# Altium integrated library Analog Devices Data Converters Digital-to-Analog Converters.IntLib: 2231 symbols (part 135 of 181)
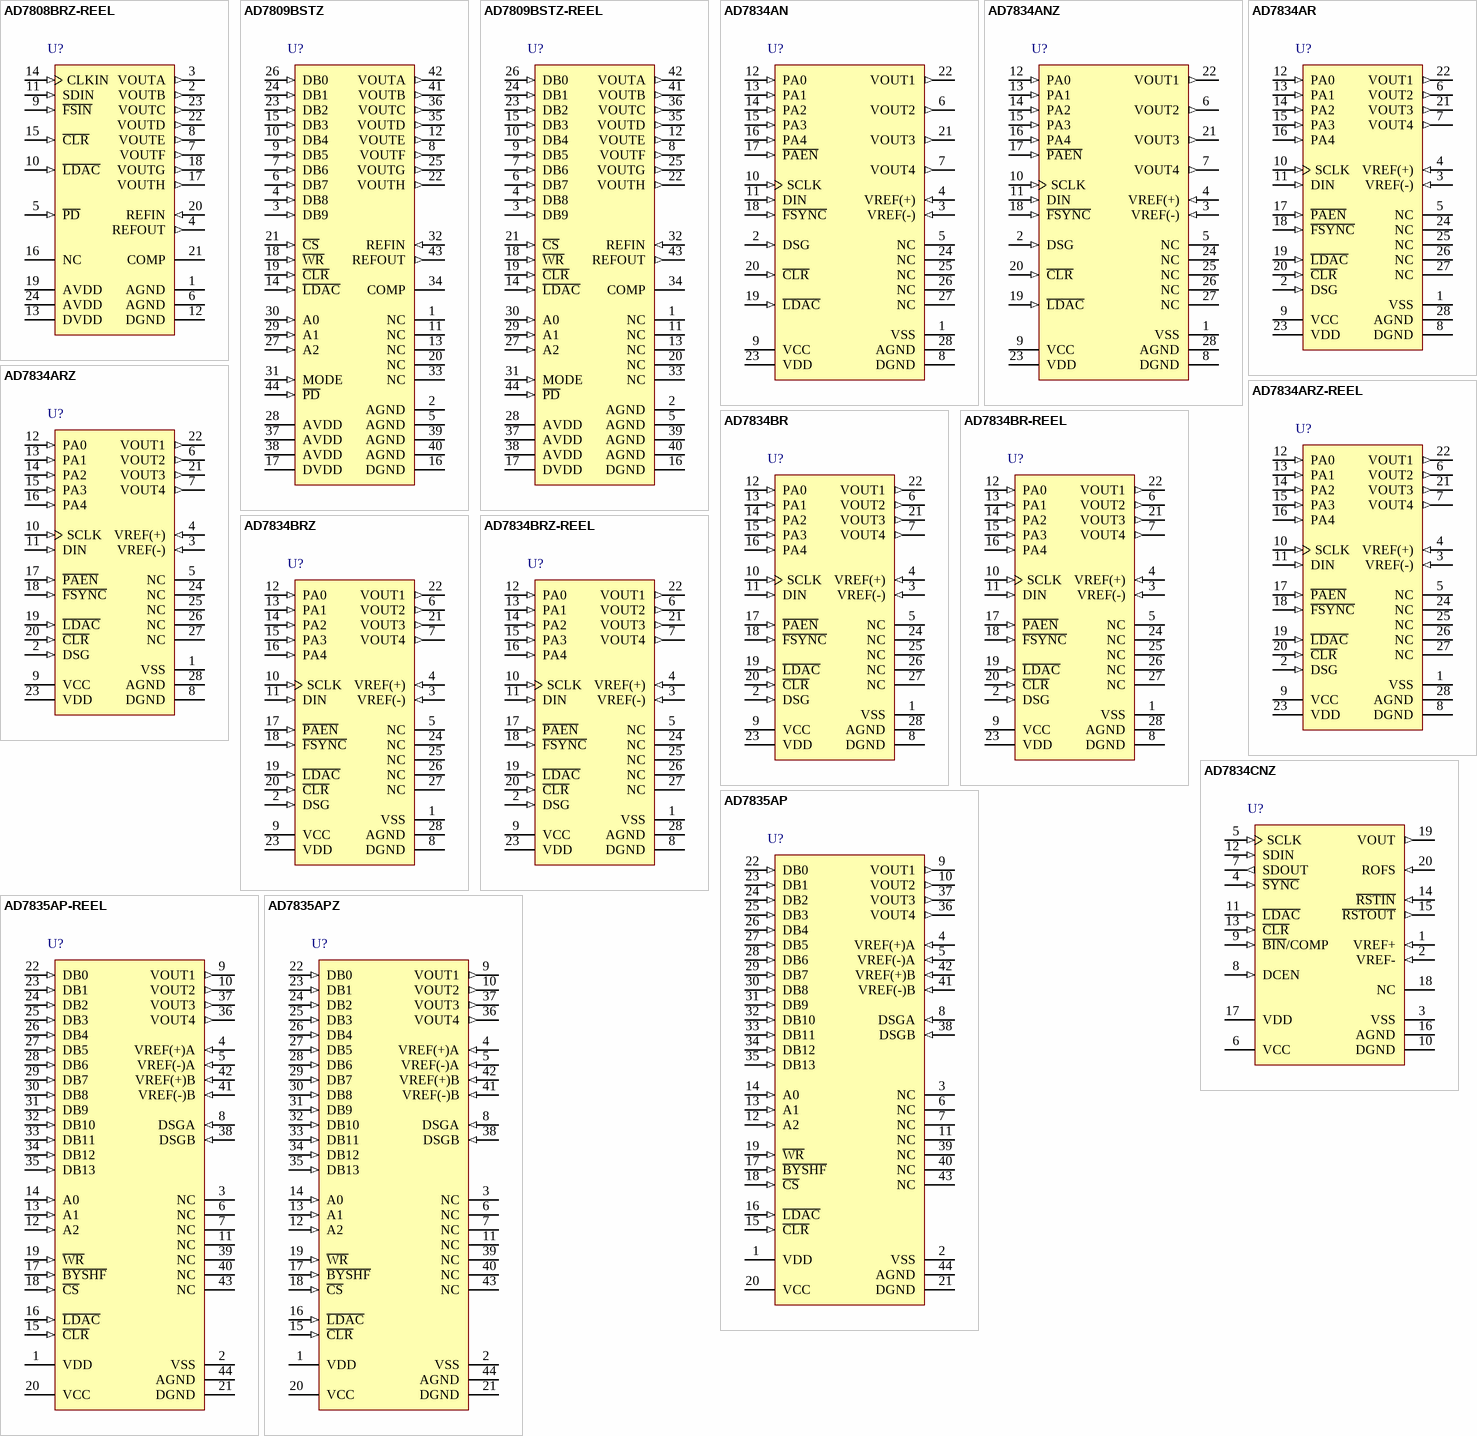
[diagram p248: symbols AD7808BRZ-REEL to AD7835APZ]

## AD7809BSTZ-REEL
designator U?
Octal 10-Bit Digital-to-Analog Converter, 3.3 to 5 V, 0 to +70 degC, SU-44, Pb-Free, Reel; Generic Part Number: AD7809; Manufacturer: Analog Devices; PartNumber: AD7809BSTZ-REEL; # DAC Outputs: 8; Max V+: 5.5V; Op Pwr Diss: 99mW; Resolution (Bits): 10; Settling Time: 1.5µs; Single Supply: Yes; DatasheetVersion: Rev.A; PackageVersion: 2003; PackageReference: SU-44; PackageDescription: 44-Lead Thin Plastic Quad Flat Package [TQFP]; Supplier 1: Digi-Key; Supplier Part Number 1: AD7809BSTZ-REEL-ND; Supplier 2: Mouser; Supplier Part Number 2: 584-AD7809BSTZ-R; Packing: Reel; RoHS: Y; Mounting Technology: Surface Mount; Code_JEDEC: MS-026-ACB; ComponentLink1Description: Manufacturer URL; ComponentLink1URL: http://www.analog.com/en/index.html; ComponentLink2Description: Datasheet; ComponentLink2URL: http://www.analog.com/static/imported-files/data_sheets/AD7804_7805_7808_7809.pdf; ComponentLink3Description: Package Specification; ComponentLink3URL: http://www.analog.com/static/imported-files/packages/433604008844224432481202SU_44.pdf; ComponentLink4Description: Product URL; ComponentLink4URL: http://www.analog.com/en/digital-to-analog-converters/da-converters/ad7809/products/product.html
footprint SU-44_N (Thin QFP, 44-Leads, Body 10x10mm, Pitch 0.8mm, IPC Medium Density)
footprint SU-44_L (Thin QFP, 44-Leads, Body 10x10mm, Pitch 0.8mm, IPC High Density)
footprint SU-44_M (Thin QFP, 44-Leads, Body 10x10mm, Pitch 0.8mm, IPC Low Density)
pins: 1 NC "No Connect. These pins should be left open circuit.", 2 AGND (power) "Ground reference point for analog circuitry.", 3 DB9 (in) "Data Input. DB9 to DB2 are the 8 MSBs of the data word.", 4 DB8 (in) "Data Input. DB9 to DB2 are the 8 MSBs of the data word.", 5 AGND (power) "Ground reference point for analog circuitry.", 6 DB7 (in) "Data Input. DB9 to DB2 are the 8 MSBs of the data word.", 7 DB6 (in) "Data Input. DB9 to DB2 are the 8 MSBs of the data word.", 8 VOUTF (out) "Analog output voltages from the DACs.", 9 DB5 (in) "Data Input. DB9 to DB2 are the 8 MSBs of the data word.", 10 DB4 (in) "Data Input. DB9 to DB2 are the 8 MSBs of the data word.", 11 NC "No Connect. These pins should be left open circuit.", 12 VOUTE (out) "Analog output voltages from the DACs.", 13 NC "No Connect. These pins should be left open circuit.", 14 ~{LDAC} (in) "L\D\A\C\ Input. When this digital input is taken low, all DAC registers are simultaneously updated with the contents of the DAC data registers. If L\D\A\C\ is permanently tied low, or is low during the rising edge of W\R\ (See Datasheet)", 15 DB3 (in) "Data Input. DB9 to DB2 are the 8 MSBs of the data word.", 16 DGND (power) "Ground reference point for digital circuitry.", 17 DVDD (power) "Digital Power Supply.", 18 ~{WR} (in) "Write Input W\R\ is an active low logic input which is used in conjunction with C\S\ and the address pins to write data to the relevant registers.", 19 ~{CLR} (in) "Asynchronous C\L\R\ Input. When this input is taken low, all Main DAC outputs are cleared either to VBIAS or to VBIAS/16 volts. All Sub DACs are also cleared and thus the transfer function of the MAIN DAC will remain (See Datasheet)", 20 NC "No Connect. These pins should be left open circuit.", 21 ~{CS} (in) "Chip Select. Active low logic input.", 22 VOUTH (out) "Analog output voltages from the DACs.", 23 DB2 (in) "Data Input. DB9 to DB2 are the 8 MSBs of the data word.", 24 DB1 (in) "DB1 and DB0 function as the 2 LSBs of the 10-bit word in 10-bit parallel mode but have other functions when BYTE loading structure is used.", 25 VOUTG (out) "Analog output voltages from the DACs.", 26 DB0 (in) "DB1 and DB0 function as the 2 LSBs of the 10-bit word in 10-bit parallel mode but have other functions when BYTE loading structure is used.", 27 A2 (in) "DAC Address Inputs. These digital inputs are used in conjunction with C\S\ and W\R\ to determine which DAC channel control register or DAC data register is loaded from the input register. These address bits are don't cares when writing to the system cont", 28 AVDD (power) "Analog Power Supply.", 29 A1 (in) "DAC Address Inputs. These digital inputs are used in conjunction with C\S\ and W\R\ to determine which DAC channel control register or DAC data register is loaded from the input register. These address bits are don’t cares when writing to the system cont", 30 A0 (in) "DAC Address Inputs. These digital inputs are used in conjunction with C\S\ and W\R\ to determine which DAC channel control register or DAC data register is loaded from the input register. These address bits are don’t cares when writing to the system cont", 31 MODE (in) "Logic Input. Logic high enables writing to the DAC data registers, a logic low enables writing to the control registers.", 32 REFIN (in) "This is an external reference input for the DAC. When this reference is selected for the DAC in the control register, the analog output from the selected DAC swings around this point.", 33 NC "No Connect. These pins should be left open circuit.", 34 COMP "Compensation Pin. This pin provides an output from the internal VDD/2 divider and is provided for ac bypass purposes only. This pin should be decoupled with 1 nF capacitors to both AVDD and AGND. This pin can be overdriven (See Datasheet)", 35 VOUTD (out) "Analog output voltages from the DACs.", 36 VOUTC (out) "Analog output voltages from the DACs.", 37 AVDD (power) "Analog Power Supply.", 38 AVDD (power) "Analog Power Supply.", 39 AGND (power) "Ground reference point for analog circuitry.", 40 AGND (power) "Ground reference point for analog circuitry.", 41 VOUTB (out) "Analog output voltages from the DACs.", 42 VOUTA (out) "Analog output voltages from the DACs.", 43 REFOUT (out) "Reference Output. This is a bandgap reference and is typically 1.23 V.", 44 ~{PD} (in) "Active low input used to put the part into low power mode reducing current consumption to 1 uA."

## AD7834AN
designator U?
Quad 14-Bit LC2MOS Digital-to-Analog Converter, -40 to +85 degC, N-28-2, Tube; Generic Part Number: AD7834; Manufacturer: Analog Devices; PartNumber: AD7834AN; # DAC Outputs: 4; Max V+: 15.75V; Op Pwr Diss: 465mW; Resolution (Bits): 14; Settling Time: 10µs; Single Supply: No; DatasheetVersion: Rev.D; PackageVersion: 071006-A; PackageReference: N-28-2; PackageDescription: 28-Lead Plastic Dual In-Line Package [PDIP]; Supplier 1: Digi-Key; Supplier Part Number 1: AD7834AN-ND; Supplier 2: Mouser; Supplier Part Number 2: 584-AD7834AN; Packing: Tube; RoHS: N; Mounting Technology: Through Hole; Code_JEDEC: MS-011; ComponentLink1Description: Manufacturer URL; ComponentLink1URL: http://www.analog.com/en/index.html; ComponentLink2Description: Datasheet; ComponentLink2URL: http://www.analog.com/static/imported-files/data_sheets/AD7834_7835.pdf; ComponentLink3Description: Package Specification; ComponentLink3URL: http://www.analog.com/static/imported-files/packages/50849324123784N_28_2.pdf; ComponentLink4Description: Product URL; ComponentLink4URL: http://www.analog.com/en/digital-to-analog-converters/da-converters/ad7834/products/product.html
footprint N-28-2 (DIP, 28-Leads, Row Spacing 15.55mm, Pitch 2.54mm, Body 37.4x13.5mm)
pins: 1 VSS (power) "Negative Analog Power Supply: -15 V +/- 5% or -12 V +/- 5%.", 2 DSG (in) "Device Sense Ground Input. Used in conjunction with the C\L\R\ input for power-on protection of  the DACs. When C\L\R\ is low, the DAC outputs are forced to the potential on the DSG pin.", 3 VREF(-) (in) "Negative Reference Input. The negative reference voltage is referred to AGND.", 4 VREF(+) (in) "Positive Reference Input. The positive reference voltage is referred to AGND.", 5 NC "No Connect.", 6 VOUT2 (out) "DAC Output.", 7 VOUT4 (out) "DAC Output.", 8 DGND (power) "Digital Ground.", 9 VCC (power) "Logic Power Supply: 5 V +/- 5%.", 10 SCLK (in) "Clock Input. Used for writing data to the device; data is clocked into the input register on the falling edge of SCLK.", 11 DIN (in) "Serial Data Input.", 12 PA0 (in) "Package Address Input. These inputs are hardwired high (VCC) or low (DGND) to assign dedicated package addresses in a multipackage environment.", 13 PA1 (in) "Package Address Input. These inputs are hardwired high (VCC) or low (DGND) to assign dedicated package addresses in a multipackage environment.", 14 PA2 (in) "Package Address Input. These inputs are hardwired high (VCC) or low (DGND) to assign dedicated package addresses in a multipackage environment.", 15 PA3 (in) "Package Address Input. These inputs are hardwired high (VCC) or low (DGND) to assign dedicated package addresses in a multipackage environment.", 16 PA4 (in) "Package Address Input. These inputs are hardwired high (VCC) or low (DGND) to assign dedicated package addresses in a multipackage environment.", 17 ~{PAEN} (in) "Package Address Enable Input. When low, this input allows normal operation of the device. When high, the device ignores the package address, but not the channel address, in the serial data stream and loads the serial data (See Datasheet)", 18 ~{FSYNC} (in) "Frame Sync Input. Active low logic input used, in conjunction with DIN and SCLK, to write data to the device with serial data expected after the falling edge of this signal. The contents of the 24-bit serial-to-parallel (See Datasheet)", 19 ~{LDAC} (in) "Load DAC Input (Level Sensitive). This input signal, in conjunction with the F\S\Y\N\C\ input signal, determines how the analog outputs are updated. If L\D\A\C\ is maintained high while new data is being loaded into the (See Datasheet)", 20 ~{CLR} (in) "Asynchronous Clear Input (Level Sensitive, Active Low). When this input is brought low, all analog outputs are switched to the externally set potential on the DSG pin. When C\L\R\ is brought high, the signal outputs remain (See Datasheet)", 21 VOUT3 (out) "DAC Output.", 22 VOUT1 (out) "DAC Output.", 23 VDD (power) "Positive Analog Power Supply: 15 V +/-5% or 12 V +/- 5%.", 24 NC "No Connect.", 25 NC "No Connect.", 26 NC "No Connect.", 27 NC "No Connect.", 28 AGND (power) "Analog Ground."

## AD7834ANZ
designator U?
Quad 14-Bit LC2MOS Digital-to-Analog Converter, -40 to +85 degC, N-28-2, Pb-Free, Tube; Generic Part Number: AD7834; Manufacturer: Analog Devices; PartNumber: AD7834ANZ; # DAC Outputs: 4; Max V+: 15.75V; Op Pwr Diss: 465mW; Resolution (Bits): 14; Settling Time: 10µs; Single Supply: No; DatasheetVersion: Rev.D; PackageVersion: 071006-A; PackageReference: N-28-2; PackageDescription: 28-Lead Plastic Dual In-Line Package [PDIP]; Supplier 1: Digi-Key; Supplier Part Number 1: AD7834ANZ-ND; Supplier 2: Newark; Supplier Part Number 2: 59K5615; Supplier 3: Mouser; Supplier Part Number 3: 584-AD7834ANZ; Packing: Tube; RoHS: Y; Mounting Technology: Through Hole; Code_JEDEC: MS-011; ComponentLink1Description: Manufacturer URL; ComponentLink1URL: http://www.analog.com/en/index.html; ComponentLink2Description: Datasheet; ComponentLink2URL: http://www.analog.com/static/imported-files/data_sheets/AD7834_7835.pdf; ComponentLink3Description: Package Specification; ComponentLink3URL: http://www.analog.com/static/imported-files/packages/50849324123784N_28_2.pdf; ComponentLink4Description: Product URL; ComponentLink4URL: http://www.analog.com/en/digital-to-analog-converters/da-converters/ad7834/products/product.html
footprint N-28-2 (DIP, 28-Leads, Row Spacing 15.55mm, Pitch 2.54mm, Body 37.4x13.5mm)
pins: 1 VSS (power) "Negative Analog Power Supply: -15 V +/- 5% or -12 V +/- 5%.", 2 DSG (in) "Device Sense Ground Input. Used in conjunction with the C\L\R\ input for power-on protection of  the DACs. When C\L\R\ is low, the DAC outputs are forced to the potential on the DSG pin.", 3 VREF(-) (in) "Negative Reference Input. The negative reference voltage is referred to AGND.", 4 VREF(+) (in) "Positive Reference Input. The positive reference voltage is referred to AGND.", 5 NC "No Connect.", 6 VOUT2 (out) "DAC Output.", 7 VOUT4 (out) "DAC Output.", 8 DGND (power) "Digital Ground.", 9 VCC (power) "Logic Power Supply: 5 V +/- 5%.", 10 SCLK (in) "Clock Input. Used for writing data to the device; data is clocked into the input register on the falling edge of SCLK.", 11 DIN (in) "Serial Data Input.", 12 PA0 (in) "Package Address Input. These inputs are hardwired high (VCC) or low (DGND) to assign dedicated package addresses in a multipackage environment.", 13 PA1 (in) "Package Address Input. These inputs are hardwired high (VCC) or low (DGND) to assign dedicated package addresses in a multipackage environment.", 14 PA2 (in) "Package Address Input. These inputs are hardwired high (VCC) or low (DGND) to assign dedicated package addresses in a multipackage environment.", 15 PA3 (in) "Package Address Input. These inputs are hardwired high (VCC) or low (DGND) to assign dedicated package addresses in a multipackage environment.", 16 PA4 (in) "Package Address Input. These inputs are hardwired high (VCC) or low (DGND) to assign dedicated package addresses in a multipackage environment.", 17 ~{PAEN} (in) "Package Address Enable Input. When low, this input allows normal operation of the device. When high, the device ignores the package address, but not the channel address, in the serial data stream and loads the serial data (See Datasheet)", 18 ~{FSYNC} (in) "Frame Sync Input. Active low logic input used, in conjunction with DIN and SCLK, to write data to the device with serial data expected after the falling edge of this signal. The contents of the 24-bit serial-to-parallel (See Datasheet)", 19 ~{LDAC} (in) "Load DAC Input (Level Sensitive). This input signal, in conjunction with the F\S\Y\N\C\ input signal, determines how the analog outputs are updated. If L\D\A\C\ is maintained high while new data is being loaded into the (See Datasheet)", 20 ~{CLR} (in) "Asynchronous Clear Input (Level Sensitive, Active Low). When this input is brought low, all analog outputs are switched to the externally set potential on the DSG pin. When C\L\R\ is brought high, the signal outputs remain (See Datasheet)", 21 VOUT3 (out) "DAC Output.", 22 VOUT1 (out) "DAC Output.", 23 VDD (power) "Positive Analog Power Supply: 15 V +/-5% or 12 V +/- 5%.", 24 NC "No Connect.", 25 NC "No Connect.", 26 NC "No Connect.", 27 NC "No Connect.", 28 AGND (power) "Analog Ground."

## AD7834AR
designator U?
Quad 14-Bit LC2MOS Digital-to-Analog Converter, -40 to +85 degC, RW-28, Tube; Generic Part Number: AD7834; Manufacturer: Analog Devices; PartNumber: AD7834AR; # DAC Outputs: 4; Max V+: 15.75V; Op Pwr Diss: 465mW; Resolution (Bits): 14; Settling Time: 10µs; Single Supply: No; DatasheetVersion: Rev.D; PackageVersion: 060706-A; PackageReference: RW-28; PackageDescription: 28-Lead Standard Small Outline Package [SOIC_W]; Supplier 1: Digi-Key; Supplier Part Number 1: AD7834AR-ND; Supplier 2: Mouser; Supplier Part Number 2: 584-AD7834AR; Packing: Tube; RoHS: N; Mounting Technology: Surface Mount; Code_JEDEC: MS-013-AE; ComponentLink1Description: Manufacturer URL; ComponentLink1URL: http://www.analog.com/en/index.html; ComponentLink2Description: Datasheet; ComponentLink2URL: http://www.analog.com/static/imported-files/data_sheets/AD7834_7835.pdf; ComponentLink3Description: Product URL; ComponentLink3URL: http://www.analog.com/en/digital-to-analog-converters/da-converters/ad7834/products/product.html
footprint RW-28_N (SOIC, 28-Leads, Body 17.9x7.5mm, Pitch 1.27mm, IPC Medium Density)
footprint RW-28_L (SOIC, 28-Leads, Body 17.9x7.5mm, Pitch 1.27mm, IPC High Density)
footprint RW-28_M (SOIC, 28-Leads, Body 17.9x7.5mm, Pitch 1.27mm, IPC Low Density)
pins: 1 VSS (power) "Negative Analog Power Supply: -15 V +/- 5% or -12 V +/- 5%.", 2 DSG (in) "Device Sense Ground Input. Used in conjunction with the C\L\R\ input for power-on protection of  the DACs. When C\L\R\ is low, the DAC outputs are forced to the potential on the DSG pin.", 3 VREF(-) (in) "Negative Reference Input. The negative reference voltage is referred to AGND.", 4 VREF(+) (in) "Positive Reference Input. The positive reference voltage is referred to AGND.", 5 NC "No Connect.", 6 VOUT2 (out) "DAC Output.", 7 VOUT4 (out) "DAC Output.", 8 DGND (power) "Digital Ground.", 9 VCC (power) "Logic Power Supply: 5 V +/- 5%.", 10 SCLK (in) "Clock Input. Used for writing data to the device; data is clocked into the input register on the falling edge of SCLK.", 11 DIN (in) "Serial Data Input.", 12 PA0 (in) "Package Address Input. These inputs are hardwired high (VCC) or low (DGND) to assign dedicated package addresses in a multipackage environment.", 13 PA1 (in) "Package Address Input. These inputs are hardwired high (VCC) or low (DGND) to assign dedicated package addresses in a multipackage environment.", 14 PA2 (in) "Package Address Input. These inputs are hardwired high (VCC) or low (DGND) to assign dedicated package addresses in a multipackage environment.", 15 PA3 (in) "Package Address Input. These inputs are hardwired high (VCC) or low (DGND) to assign dedicated package addresses in a multipackage environment.", 16 PA4 (in) "Package Address Input. These inputs are hardwired high (VCC) or low (DGND) to assign dedicated package addresses in a multipackage environment.", 17 ~{PAEN} (in) "Package Address Enable Input. When low, this input allows normal operation of the device. When high, the device ignores the package address, but not the channel address, in the serial data stream and loads the serial data (See Datasheet)", 18 ~{FSYNC} (in) "Frame Sync Input. Active low logic input used, in conjunction with DIN and SCLK, to write data to the device with serial data expected after the falling edge of this signal. The contents of the 24-bit serial-to-parallel (See Datasheet)", 19 ~{LDAC} (in) "Load DAC Input (Level Sensitive). This input signal, in conjunction with the F\S\Y\N\C\ input signal, determines how the analog outputs are updated. If L\D\A\C\ is maintained high while new data is being loaded into the (See Datasheet)", 20 ~{CLR} (in) "Asynchronous Clear Input (Level Sensitive, Active Low). When this input is brought low, all analog outputs are switched to the externally set potential on the DSG pin. When C\L\R\ is brought high, the signal outputs remain (See Datasheet)", 21 VOUT3 (out) "DAC Output.", 22 VOUT1 (out) "DAC Output.", 23 VDD (power) "Positive Analog Power Supply: 15 V +/- 5% or 12 V +/- 5%.", 24 NC "No Connect.", 25 NC "No Connect.", 26 NC "No Connect.", 27 NC "No Connect.", 28 AGND (power) "Analog Ground."

## AD7834ARZ
designator U?
Quad 14-Bit LC2MOS Digital-to-Analog Converter, -40 to +85 degC, RW-28, Pb-Free, Tube; Generic Part Number: AD7834; Manufacturer: Analog Devices; PartNumber: AD7834ARZ; # DAC Outputs: 4; Max V+: 15.75V; Op Pwr Diss: 465mW; Resolution (Bits): 14; Settling Time: 10µs; Single Supply: No; DatasheetVersion: Rev.D; PackageVersion: 060706-A; PackageReference: RW-28; PackageDescription: 28-Lead Standard Small Outline Package [SOIC_W]; Supplier 1: Digi-Key; Supplier Part Number 1: AD7834ARZ-ND; Supplier 2: Mouser; Supplier Part Number 2: 584-AD7834ARZ; Packing: Tube; RoHS: Y; Mounting Technology: Surface Mount; Code_JEDEC: MS-013-AE; ComponentLink1Description: Manufacturer URL; ComponentLink1URL: http://www.analog.com/en/index.html; ComponentLink2Description: Datasheet; ComponentLink2URL: http://www.analog.com/static/imported-files/data_sheets/AD7834_7835.pdf; ComponentLink3Description: Product URL; ComponentLink3URL: http://www.analog.com/en/digital-to-analog-converters/da-converters/ad7834/products/product.html
footprint RW-28_N (SOIC, 28-Leads, Body 17.9x7.5mm, Pitch 1.27mm, IPC Medium Density)
footprint RW-28_L (SOIC, 28-Leads, Body 17.9x7.5mm, Pitch 1.27mm, IPC High Density)
footprint RW-28_M (SOIC, 28-Leads, Body 17.9x7.5mm, Pitch 1.27mm, IPC Low Density)
pins: 1 VSS (power) "Negative Analog Power Supply: -15 V +/- 5% or -12 V +/- 5%.", 2 DSG (in) "Device Sense Ground Input. Used in conjunction with the C\L\R\ input for power-on protection of  the DACs. When C\L\R\ is low, the DAC outputs are forced to the potential on the DSG pin.", 3 VREF(-) (in) "Negative Reference Input. The negative reference voltage is referred to AGND.", 4 VREF(+) (in) "Positive Reference Input. The positive reference voltage is referred to AGND.", 5 NC "No Connect.", 6 VOUT2 (out) "DAC Output.", 7 VOUT4 (out) "DAC Output.", 8 DGND (power) "Digital Ground.", 9 VCC (power) "Logic Power Supply: 5 V +/- 5%.", 10 SCLK (in) "Clock Input. Used for writing data to the device; data is clocked into the input register on the falling edge of SCLK.", 11 DIN (in) "Serial Data Input.", 12 PA0 (in) "Package Address Input. These inputs are hardwired high (VCC) or low (DGND) to assign dedicated package addresses in a multipackage environment.", 13 PA1 (in) "Package Address Input. These inputs are hardwired high (VCC) or low (DGND) to assign dedicated package addresses in a multipackage environment.", 14 PA2 (in) "Package Address Input. These inputs are hardwired high (VCC) or low (DGND) to assign dedicated package addresses in a multipackage environment.", 15 PA3 (in) "Package Address Input. These inputs are hardwired high (VCC) or low (DGND) to assign dedicated package addresses in a multipackage environment.", 16 PA4 (in) "Package Address Input. These inputs are hardwired high (VCC) or low (DGND) to assign dedicated package addresses in a multipackage environment.", 17 ~{PAEN} (in) "Package Address Enable Input. When low, this input allows normal operation of the device. When high, the device ignores the package address, but not the channel address, in the serial data stream and loads the serial data (See Datasheet)", 18 ~{FSYNC} (in) "Frame Sync Input. Active low logic input used, in conjunction with DIN and SCLK, to write data to the device with serial data expected after the falling edge of this signal. The contents of the 24-bit serial-to-parallel (See Datasheet)", 19 ~{LDAC} (in) "Load DAC Input (Level Sensitive). This input signal, in conjunction with the F\S\Y\N\C\ input signal, determines how the analog outputs are updated. If L\D\A\C\ is maintained high while new data is being loaded into the (See Datasheet)", 20 ~{CLR} (in) "Asynchronous Clear Input (Level Sensitive, Active Low). When this input is brought low, all analog outputs are switched to the externally set potential on the DSG pin. When C\L\R\ is brought high, the signal outputs remain (See Datasheet)", 21 VOUT3 (out) "DAC Output.", 22 VOUT1 (out) "DAC Output.", 23 VDD (power) "Positive Analog Power Supply: 15 V +/- 5% or 12 V +/- 5%.", 24 NC "No Connect.", 25 NC "No Connect.", 26 NC "No Connect.", 27 NC "No Connect.", 28 AGND (power) "Analog Ground."

## AD7834ARZ-REEL
designator U?
Quad 14-Bit LC2MOS Digital-to-Analog Converter, -40 to +85 degC, RW-28, Pb-Free, Reel; Generic Part Number: AD7834; Manufacturer: Analog Devices; PartNumber: AD7834ARZ-REEL; # DAC Outputs: 4; Max V+: 15.75V; Op Pwr Diss: 465mW; Resolution (Bits): 14; Settling Time: 10µs; Single Supply: No; DatasheetVersion: Rev.D; PackageVersion: 060706-A; PackageReference: RW-28; PackageDescription: 28-Lead Standard Small Outline Package [SOIC_W]; Supplier 1: Digi-Key; Supplier Part Number 1: AD7834ARZ-REEL-ND; Supplier 2: Mouser; Supplier Part Number 2: 584-AD7834ARZ-R; Packing: Reel; RoHS: Y; Mounting Technology: Surface Mount; Code_JEDEC: MS-013-AE; ComponentLink1Description: Manufacturer URL; ComponentLink1URL: http://www.analog.com/en/index.html; ComponentLink2Description: Datasheet; ComponentLink2URL: http://www.analog.com/static/imported-files/data_sheets/AD7834_7835.pdf; ComponentLink3Description: Product URL; ComponentLink3URL: http://www.analog.com/en/digital-to-analog-converters/da-converters/ad7834/products/product.html
footprint RW-28_N (SOIC, 28-Leads, Body 17.9x7.5mm, Pitch 1.27mm, IPC Medium Density)
footprint RW-28_L (SOIC, 28-Leads, Body 17.9x7.5mm, Pitch 1.27mm, IPC High Density)
footprint RW-28_M (SOIC, 28-Leads, Body 17.9x7.5mm, Pitch 1.27mm, IPC Low Density)
pins: 1 VSS (power) "Negative Analog Power Supply: -15 V +/- 5% or -12 V +/- 5%.", 2 DSG (in) "Device Sense Ground Input. Used in conjunction with the C\L\R\ input for power-on protection of  the DACs. When C\L\R\ is low, the DAC outputs are forced to the potential on the DSG pin.", 3 VREF(-) (in) "Negative Reference Input. The negative reference voltage is referred to AGND.", 4 VREF(+) (in) "Positive Reference Input. The positive reference voltage is referred to AGND.", 5 NC "No Connect.", 6 VOUT2 (out) "DAC Output.", 7 VOUT4 (out) "DAC Output.", 8 DGND (power) "Digital Ground.", 9 VCC (power) "Logic Power Supply: 5 V +/- 5%.", 10 SCLK (in) "Clock Input. Used for writing data to the device; data is clocked into the input register on the falling edge of SCLK.", 11 DIN (in) "Serial Data Input.", 12 PA0 (in) "Package Address Input. These inputs are hardwired high (VCC) or low (DGND) to assign dedicated package addresses in a multipackage environment.", 13 PA1 (in) "Package Address Input. These inputs are hardwired high (VCC) or low (DGND) to assign dedicated package addresses in a multipackage environment.", 14 PA2 (in) "Package Address Input. These inputs are hardwired high (VCC) or low (DGND) to assign dedicated package addresses in a multipackage environment.", 15 PA3 (in) "Package Address Input. These inputs are hardwired high (VCC) or low (DGND) to assign dedicated package addresses in a multipackage environment.", 16 PA4 (in) "Package Address Input. These inputs are hardwired high (VCC) or low (DGND) to assign dedicated package addresses in a multipackage environment.", 17 ~{PAEN} (in) "Package Address Enable Input. When low, this input allows normal operation of the device. When high, the device ignores the package address, but not the channel address, in the serial data stream and loads the serial data (See Datasheet)", 18 ~{FSYNC} (in) "Frame Sync Input. Active low logic input used, in conjunction with DIN and SCLK, to write data to the device with serial data expected after the falling edge of this signal. The contents of the 24-bit serial-to-parallel (See Datasheet)", 19 ~{LDAC} (in) "Load DAC Input (Level Sensitive). This input signal, in conjunction with the F\S\Y\N\C\ input signal, determines how the analog outputs are updated. If L\D\A\C\ is maintained high while new data is being loaded into the (See Datasheet)", 20 ~{CLR} (in) "Asynchronous Clear Input (Level Sensitive, Active Low). When this input is brought low, all analog outputs are switched to the externally set potential on the DSG pin. When C\L\R\ is brought high, the signal outputs remain (See Datasheet)", 21 VOUT3 (out) "DAC Output.", 22 VOUT1 (out) "DAC Output.", 23 VDD (power) "Positive Analog Power Supply: 15 V +/- 5% or 12 V +/- 5%.", 24 NC "No Connect.", 25 NC "No Connect.", 26 NC "No Connect.", 27 NC "No Connect.", 28 AGND (power) "Analog Ground."

## AD7834BR
designator U?
Quad 14-Bit LC2MOS Digital-to-Analog Converter, -40 to +85 degC, RW-28, Tube; Generic Part Number: AD7834; Manufacturer: Analog Devices; PartNumber: AD7834BR; # DAC Outputs: 4; Max V+: 15.75V; Op Pwr Diss: 465mW; Resolution (Bits): 14; Settling Time: 10µs; Single Supply: No; DatasheetVersion: Rev.D; PackageVersion: 060706-A; PackageReference: RW-28; PackageDescription: 28-Lead Standard Small Outline Package [SOIC_W]; Supplier 1: Digi-Key; Supplier Part Number 1: AD7834BR-ND; Supplier 2: Mouser; Supplier Part Number 2: 584-AD7834BR; Packing: Tube; RoHS: N; Mounting Technology: Surface Mount; Code_JEDEC: MS-013-AE; ComponentLink1Description: Manufacturer URL; ComponentLink1URL: http://www.analog.com/en/index.html; ComponentLink2Description: Datasheet; ComponentLink2URL: http://www.analog.com/static/imported-files/data_sheets/AD7834_7835.pdf; ComponentLink3Description: Product URL; ComponentLink3URL: http://www.analog.com/en/digital-to-analog-converters/da-converters/ad7834/products/product.html
footprint RW-28_N (SOIC, 28-Leads, Body 17.9x7.5mm, Pitch 1.27mm, IPC Medium Density)
footprint RW-28_L (SOIC, 28-Leads, Body 17.9x7.5mm, Pitch 1.27mm, IPC High Density)
footprint RW-28_M (SOIC, 28-Leads, Body 17.9x7.5mm, Pitch 1.27mm, IPC Low Density)
pins: 1 VSS (power) "Negative Analog Power Supply: -15 V +/- 5% or -12 V +/- 5%.", 2 DSG (in) "Device Sense Ground Input. Used in conjunction with the C\L\R\ input for power-on protection of  the DACs. When C\L\R\ is low, the DAC outputs are forced to the potential on the DSG pin.", 3 VREF(-) (in) "Negative Reference Input. The negative reference voltage is referred to AGND.", 4 VREF(+) (in) "Positive Reference Input. The positive reference voltage is referred to AGND.", 5 NC "No Connect.", 6 VOUT2 (out) "DAC Output.", 7 VOUT4 (out) "DAC Output.", 8 DGND (power) "Digital Ground.", 9 VCC (power) "Logic Power Supply: 5 V +/- 5%.", 10 SCLK (in) "Clock Input. Used for writing data to the device; data is clocked into the input register on the falling edge of SCLK.", 11 DIN (in) "Serial Data Input.", 12 PA0 (in) "Package Address Input. These inputs are hardwired high (VCC) or low (DGND) to assign dedicated package addresses in a multipackage environment.", 13 PA1 (in) "Package Address Input. These inputs are hardwired high (VCC) or low (DGND) to assign dedicated package addresses in a multipackage environment.", 14 PA2 (in) "Package Address Input. These inputs are hardwired high (VCC) or low (DGND) to assign dedicated package addresses in a multipackage environment.", 15 PA3 (in) "Package Address Input. These inputs are hardwired high (VCC) or low (DGND) to assign dedicated package addresses in a multipackage environment.", 16 PA4 (in) "Package Address Input. These inputs are hardwired high (VCC) or low (DGND) to assign dedicated package addresses in a multipackage environment.", 17 ~{PAEN} (in) "Package Address Enable Input. When low, this input allows normal operation of the device. When high, the device ignores the package address, but not the channel address, in the serial data stream and loads the serial data (See Datasheet)", 18 ~{FSYNC} (in) "Frame Sync Input. Active low logic input used, in conjunction with DIN and SCLK, to write data to the device with serial data expected after the falling edge of this signal. The contents of the 24-bit serial-to-parallel (See Datasheet)", 19 ~{LDAC} (in) "Load DAC Input (Level Sensitive). This input signal, in conjunction with the F\S\Y\N\C\ input signal, determines how the analog outputs are updated. If L\D\A\C\ is maintained high while new data is being loaded into the (See Datasheet)", 20 ~{CLR} (in) "Asynchronous Clear Input (Level Sensitive, Active Low). When this input is brought low, all analog outputs are switched to the externally set potential on the DSG pin. When C\L\R\ is brought high, the signal outputs remain (See Datasheet)", 21 VOUT3 (out) "DAC Output.", 22 VOUT1 (out) "DAC Output.", 23 VDD (power) "Positive Analog Power Supply: 15 V +/- 5% or 12 V +/- 5%.", 24 NC "No Connect.", 25 NC "No Connect.", 26 NC "No Connect.", 27 NC "No Connect.", 28 AGND (power) "Analog Ground."

## AD7834BR-REEL
designator U?
Quad 14-Bit LC2MOS Digital-to-Analog Converter, -40 to +85 degC, RW-28, Reel; Generic Part Number: AD7834; Manufacturer: Analog Devices; PartNumber: AD7834BR-REEL; # DAC Outputs: 4; Max V+: 15.75V; Op Pwr Diss: 465mW; Resolution (Bits): 14; Settling Time: 10µs; Single Supply: No; DatasheetVersion: Rev.D; PackageVersion: 060706-A; PackageReference: RW-28; PackageDescription: 28-Lead Standard Small Outline Package [SOIC_W]; Supplier 1: Digi-Key; Supplier Part Number 1: AD7834BR-REEL-ND; Supplier 2: Mouser; Supplier Part Number 2: 584-AD7834BR-R; Packing: Reel; RoHS: N; Mounting Technology: Surface Mount; Code_JEDEC: MS-013-AE; ComponentLink1Description: Manufacturer URL; ComponentLink1URL: http://www.analog.com/en/index.html; ComponentLink2Description: Datasheet; ComponentLink2URL: http://www.analog.com/static/imported-files/data_sheets/AD7834_7835.pdf; ComponentLink3Description: Product URL; ComponentLink3URL: http://www.analog.com/en/digital-to-analog-converters/da-converters/ad7834/products/product.html
footprint RW-28_N (SOIC, 28-Leads, Body 17.9x7.5mm, Pitch 1.27mm, IPC Medium Density)
footprint RW-28_L (SOIC, 28-Leads, Body 17.9x7.5mm, Pitch 1.27mm, IPC High Density)
footprint RW-28_M (SOIC, 28-Leads, Body 17.9x7.5mm, Pitch 1.27mm, IPC Low Density)
pins: 1 VSS (power) "Negative Analog Power Supply: -15 V +/- 5% or -12 V +/- 5%.", 2 DSG (in) "Device Sense Ground Input. Used in conjunction with the C\L\R\ input for power-on protection of  the DACs. When C\L\R\ is low, the DAC outputs are forced to the potential on the DSG pin.", 3 VREF(-) (in) "Negative Reference Input. The negative reference voltage is referred to AGND.", 4 VREF(+) (in) "Positive Reference Input. The positive reference voltage is referred to AGND.", 5 NC "No Connect.", 6 VOUT2 (out) "DAC Output.", 7 VOUT4 (out) "DAC Output.", 8 DGND (power) "Digital Ground.", 9 VCC (power) "Logic Power Supply: 5 V +/- 5%.", 10 SCLK (in) "Clock Input. Used for writing data to the device; data is clocked into the input register on the falling edge of SCLK.", 11 DIN (in) "Serial Data Input.", 12 PA0 (in) "Package Address Input. These inputs are hardwired high (VCC) or low (DGND) to assign dedicated package addresses in a multipackage environment.", 13 PA1 (in) "Package Address Input. These inputs are hardwired high (VCC) or low (DGND) to assign dedicated package addresses in a multipackage environment.", 14 PA2 (in) "Package Address Input. These inputs are hardwired high (VCC) or low (DGND) to assign dedicated package addresses in a multipackage environment.", 15 PA3 (in) "Package Address Input. These inputs are hardwired high (VCC) or low (DGND) to assign dedicated package addresses in a multipackage environment.", 16 PA4 (in) "Package Address Input. These inputs are hardwired high (VCC) or low (DGND) to assign dedicated package addresses in a multipackage environment.", 17 ~{PAEN} (in) "Package Address Enable Input. When low, this input allows normal operation of the device. When high, the device ignores the package address, but not the channel address, in the serial data stream and loads the serial data (See Datasheet)", 18 ~{FSYNC} (in) "Frame Sync Input. Active low logic input used, in conjunction with DIN and SCLK, to write data to the device with serial data expected after the falling edge of this signal. The contents of the 24-bit serial-to-parallel (See Datasheet)", 19 ~{LDAC} (in) "Load DAC Input (Level Sensitive). This input signal, in conjunction with the F\S\Y\N\C\ input signal, determines how the analog outputs are updated. If L\D\A\C\ is maintained high while new data is being loaded into the (See Datasheet)", 20 ~{CLR} (in) "Asynchronous Clear Input (Level Sensitive, Active Low). When this input is brought low, all analog outputs are switched to the externally set potential on the DSG pin. When C\L\R\ is brought high, the signal outputs remain (See Datasheet)", 21 VOUT3 (out) "DAC Output.", 22 VOUT1 (out) "DAC Output.", 23 VDD (power) "Positive Analog Power Supply: 15 V +/- 5% or 12 V +/- 5%.", 24 NC "No Connect.", 25 NC "No Connect.", 26 NC "No Connect.", 27 NC "No Connect.", 28 AGND (power) "Analog Ground."

## AD7834BRZ
designator U?
Quad 14-Bit LC2MOS Digital-to-Analog Converter, -40 to +85 degC, RW-28, Pb-Free, Tube; Generic Part Number: AD7834; Manufacturer: Analog Devices; PartNumber: AD7834BRZ; # DAC Outputs: 4; Max V+: 15.75V; Op Pwr Diss: 465mW; Resolution (Bits): 14; Settling Time: 10µs; Single Supply: No; DatasheetVersion: Rev.D; PackageVersion: 060706-A; PackageReference: RW-28; PackageDescription: 28-Lead Standard Small Outline Package [SOIC_W]; Supplier 1: Digi-Key; Supplier Part Number 1: AD7834BRZ-ND; Supplier 2: Mouser; Supplier Part Number 2: 584-AD7834BRZ; Packing: Tube; RoHS: Y; Mounting Technology: Surface Mount; Code_JEDEC: MS-013-AE; ComponentLink1Description: Manufacturer URL; ComponentLink1URL: http://www.analog.com/en/index.html; ComponentLink2Description: Datasheet; ComponentLink2URL: http://www.analog.com/static/imported-files/data_sheets/AD7834_7835.pdf; ComponentLink3Description: Product URL; ComponentLink3URL: http://www.analog.com/en/digital-to-analog-converters/da-converters/ad7834/products/product.html
footprint RW-28_N (SOIC, 28-Leads, Body 17.9x7.5mm, Pitch 1.27mm, IPC Medium Density)
footprint RW-28_L (SOIC, 28-Leads, Body 17.9x7.5mm, Pitch 1.27mm, IPC High Density)
footprint RW-28_M (SOIC, 28-Leads, Body 17.9x7.5mm, Pitch 1.27mm, IPC Low Density)
pins: 1 VSS (power) "Negative Analog Power Supply: -15 V +/- 5% or -12 V +/- 5%.", 2 DSG (in) "Device Sense Ground Input. Used in conjunction with the C\L\R\ input for power-on protection of  the DACs. When C\L\R\ is low, the DAC outputs are forced to the potential on the DSG pin.", 3 VREF(-) (in) "Negative Reference Input. The negative reference voltage is referred to AGND.", 4 VREF(+) (in) "Positive Reference Input. The positive reference voltage is referred to AGND.", 5 NC "No Connect.", 6 VOUT2 (out) "DAC Output.", 7 VOUT4 (out) "DAC Output.", 8 DGND (power) "Digital Ground.", 9 VCC (power) "Logic Power Supply: 5 V +/- 5%.", 10 SCLK (in) "Clock Input. Used for writing data to the device; data is clocked into the input register on the falling edge of SCLK.", 11 DIN (in) "Serial Data Input.", 12 PA0 (in) "Package Address Input. These inputs are hardwired high (VCC) or low (DGND) to assign dedicated package addresses in a multipackage environment.", 13 PA1 (in) "Package Address Input. These inputs are hardwired high (VCC) or low (DGND) to assign dedicated package addresses in a multipackage environment.", 14 PA2 (in) "Package Address Input. These inputs are hardwired high (VCC) or low (DGND) to assign dedicated package addresses in a multipackage environment.", 15 PA3 (in) "Package Address Input. These inputs are hardwired high (VCC) or low (DGND) to assign dedicated package addresses in a multipackage environment.", 16 PA4 (in) "Package Address Input. These inputs are hardwired high (VCC) or low (DGND) to assign dedicated package addresses in a multipackage environment.", 17 ~{PAEN} (in) "Package Address Enable Input. When low, this input allows normal operation of the device. When high, the device ignores the package address, but not the channel address, in the serial data stream and loads the serial data (See Datasheet)", 18 ~{FSYNC} (in) "Frame Sync Input. Active low logic input used, in conjunction with DIN and SCLK, to write data to the device with serial data expected after the falling edge of this signal. The contents of the 24-bit serial-to-parallel (See Datasheet)", 19 ~{LDAC} (in) "Load DAC Input (Level Sensitive). This input signal, in conjunction with the F\S\Y\N\C\ input signal, determines how the analog outputs are updated. If L\D\A\C\ is maintained high while new data is being loaded into the (See Datasheet)", 20 ~{CLR} (in) "Asynchronous Clear Input (Level Sensitive, Active Low). When this input is brought low, all analog outputs are switched to the externally set potential on the DSG pin. When C\L\R\ is brought high, the signal outputs remain (See Datasheet)", 21 VOUT3 (out) "DAC Output.", 22 VOUT1 (out) "DAC Output.", 23 VDD (power) "Positive Analog Power Supply: 15 V +/- 5% or 12 V +/- 5%.", 24 NC "No Connect.", 25 NC "No Connect.", 26 NC "No Connect.", 27 NC "No Connect.", 28 AGND (power) "Analog Ground."

## AD7834BRZ-REEL
designator U?
Quad 14-Bit LC2MOS Digital-to-Analog Converter, -40 to +85 degC, RW-28, Pb-Free, Reel; Generic Part Number: AD7834; Manufacturer: Analog Devices; PartNumber: AD7834BRZ-REEL; # DAC Outputs: 4; Max V+: 15.75V; Op Pwr Diss: 465mW; Resolution (Bits): 14; Settling Time: 10µs; Single Supply: No; DatasheetVersion: Rev.D; PackageVersion: 060706-A; PackageReference: RW-28; PackageDescription: 28-Lead Standard Small Outline Package [SOIC_W]; Supplier 1: Digi-Key; Supplier Part Number 1: AD7834BRZ-REEL-ND; Supplier 2: Mouser; Supplier Part Number 2: 584-AD7834BRZ-R; Packing: Reel; RoHS: Y; Mounting Technology: Surface Mount; Code_JEDEC: MS-013-AE; ComponentLink1Description: Manufacturer URL; ComponentLink1URL: http://www.analog.com/en/index.html; ComponentLink2Description: Datasheet; ComponentLink2URL: http://www.analog.com/static/imported-files/data_sheets/AD7834_7835.pdf; ComponentLink3Description: Product URL; ComponentLink3URL: http://www.analog.com/en/digital-to-analog-converters/da-converters/ad7834/products/product.html
footprint RW-28_N (SOIC, 28-Leads, Body 17.9x7.5mm, Pitch 1.27mm, IPC Medium Density)
footprint RW-28_L (SOIC, 28-Leads, Body 17.9x7.5mm, Pitch 1.27mm, IPC High Density)
footprint RW-28_M (SOIC, 28-Leads, Body 17.9x7.5mm, Pitch 1.27mm, IPC Low Density)
pins: 1 VSS (power) "Negative Analog Power Supply: -15 V +/- 5% or -12 V +/- 5%.", 2 DSG (in) "Device Sense Ground Input. Used in conjunction with the C\L\R\ input for power-on protection of  the DACs. When C\L\R\ is low, the DAC outputs are forced to the potential on the DSG pin.", 3 VREF(-) (in) "Negative Reference Input. The negative reference voltage is referred to AGND.", 4 VREF(+) (in) "Positive Reference Input. The positive reference voltage is referred to AGND.", 5 NC "No Connect.", 6 VOUT2 (out) "DAC Output.", 7 VOUT4 (out) "DAC Output.", 8 DGND (power) "Digital Ground.", 9 VCC (power) "Logic Power Supply: 5 V +/- 5%.", 10 SCLK (in) "Clock Input. Used for writing data to the device; data is clocked into the input register on the falling edge of SCLK.", 11 DIN (in) "Serial Data Input.", 12 PA0 (in) "Package Address Input. These inputs are hardwired high (VCC) or low (DGND) to assign dedicated package addresses in a multipackage environment.", 13 PA1 (in) "Package Address Input. These inputs are hardwired high (VCC) or low (DGND) to assign dedicated package addresses in a multipackage environment.", 14 PA2 (in) "Package Address Input. These inputs are hardwired high (VCC) or low (DGND) to assign dedicated package addresses in a multipackage environment.", 15 PA3 (in) "Package Address Input. These inputs are hardwired high (VCC) or low (DGND) to assign dedicated package addresses in a multipackage environment.", 16 PA4 (in) "Package Address Input. These inputs are hardwired high (VCC) or low (DGND) to assign dedicated package addresses in a multipackage environment.", 17 ~{PAEN} (in) "Package Address Enable Input. When low, this input allows normal operation of the device. When high, the device ignores the package address, but not the channel address, in the serial data stream and loads the serial data (See Datasheet)", 18 ~{FSYNC} (in) "Frame Sync Input. Active low logic input used, in conjunction with DIN and SCLK, to write data to the device with serial data expected after the falling edge of this signal. The contents of the 24-bit serial-to-parallel (See Datasheet)", 19 ~{LDAC} (in) "Load DAC Input (Level Sensitive). This input signal, in conjunction with the F\S\Y\N\C\ input signal, determines how the analog outputs are updated. If L\D\A\C\ is maintained high while new data is being loaded into the (See Datasheet)", 20 ~{CLR} (in) "Asynchronous Clear Input (Level Sensitive, Active Low). When this input is brought low, all analog outputs are switched to the externally set potential on the DSG pin. When C\L\R\ is brought high, the signal outputs remain (See Datasheet)", 21 VOUT3 (out) "DAC Output.", 22 VOUT1 (out) "DAC Output.", 23 VDD (power) "Positive Analog Power Supply: 15 V +/- 5% or 12 V +/- 5%.", 24 NC "No Connect.", 25 NC "No Connect.", 26 NC "No Connect.", 27 NC "No Connect.", 28 AGND (power) "Analog Ground."

## AD7834CNZ
designator U?
Single 16-Bit Digital-to-Analog Converter with Serial Interface, -40 to +85 degC, N-20, Pb-Free, Tube; Generic Part Number: AD7849; Manufacturer: Analog Devices; PartNumber: AD7834CNZ; # DAC Outputs: 1; Max V+: 15.75V; Op Pwr Diss: 163mW; Resolution (Bits): 16; Settling Time: 7µs; Single Supply: No; DatasheetVersion: Rev.C; PackageVersion: 070706-A; PackageReference: N-20; PackageDescription: 20-Lead Plastic Dual In-Line Package [PDIP] Narrow Body; Supplier 1: Mouser; Supplier Part Number 1: N/A; Packing: Tube; RoHS: Y; Mounting Technology: Through Hole; Code_JEDEC: MS-001; ComponentLink1Description: Manufacturer URL; ComponentLink1URL: http://www.analog.com/en/index.html; ComponentLink2Description: Datasheet; ComponentLink2URL: http://www.analog.com/static/imported-files/data_sheets/AD7849.pdf; ComponentLink3Description: Package Specification; ComponentLink3URL: http://www.analog.com/static/imported-files/packages/50601349676519N_20.pdf; ComponentLink4Description: Product URL; ComponentLink4URL: http://www.analog.com/en/digital-to-analog-converters/da-converters/ad7849/products/product.html
footprint N-20 (DIP, 20-Leads, Row Spacing 7.62mm, Pitch 2.54mm, Body 25.9x6.6mm)
pins: 1 VREF+ (in) "VREF+ Input. The DAC is specified for VREF+ of 5 V. The DAC is fully multiplying so that the VREF+ range is +5 V to -5 V.", 2 VREF- (in) "VREF? Input. The DAC is specified for VREF- of -5 V. The DAC is fully multiplying so that the VREF- range is -5 V to +5 V.", 3 VSS (power) "Negative supply for the analog circuitry. This is nominally -15 V.", 4 ~{SYNC} (in) "Data Synchronization Logic Input. When it goes low, the internal logic is initialized in readiness for a new data-word.", 5 SCLK (in) "Serial Clock Logic Input. Data is clocked into the input register on each SCLK falling edge.", 6 VCC (power) "Positive supply for the digital circuitry. This is nominally 5 V.", 7 SDOUT (out) "Serial Data Output. With DCEN at Logic 1, this output is enabled, and the serial data in the input shift register is clocked out on each rising edge of SCLK.", 8 DCEN (in) "Daisy-Chain Enable Logic Input. Connect this pin high if a daisy-chain interface is being used; otherwise, this pin must be connected low.", 9 ~{BIN}/COMP (in) "Logic Input. This input selects the data format to be either binary or twos complement. In the unipolar output range, natural binary format is selected by connecting the input to Logic 0. In the bipolar output range, offset (See Datasheet)", 10 DGND (power) "Digital Ground. Ground reference point for the on-chip digital circuitry.", 11 ~{LDAC} (in) "Load DAC Logic Input. This input updates the DAC output. The DAC output is updated on the falling edge of this signal, or alternatively, if this input is permanently low, an automatic update mode is selected where the DAC is (See Datasheet)", 12 SDIN (in) "Serial Data Input. The 16-bit serial data-word is applied to this input.", 13 ~{CLR} (in) "Clear Logic Input. Taking this input low sets VOUT to 0 V in both the unipolar output range and the bipolar twos complement output range. It sets VOUT to VREF- in the offset binary bipolar output range.", 14 ~{RSTIN} (in) "Reset Logic Input. This input allows external access to the internal reset logic. Applying Logic 0 to this input,resets the DAC output to 0 V. In normal operation, it should be tied to Logic 1.", 15 ~{RSTOUT} (out) "Reset Logic Output. This is the output from the on-chip voltage monitor used in the reset circuit. It can be used to control other system components, if desired", 16 AGND (power) "This is the analog ground for the device. It is the point to which the output gets shorted in reset mode.", 17 VDD (power) "Positive Supply for the Analog Circuitry. This is 15 V nominal.", 18 NC "No Connect. Leave unconnected.", 19 VOUT (out) "DAC Output Voltage Pin.", 20 ROFS (in) "Input to Summing Resistor of DAC Output Amplifier. This is used to select the output voltage ranges. Also, see Figure 20 to Figure 23 in the Applying the AD7849 section."